# Altium schematic symbol library IR LED TSOP.Schlib: 1 symbol
Pins are listed as number, name and electrical type; pins without a type are passive.

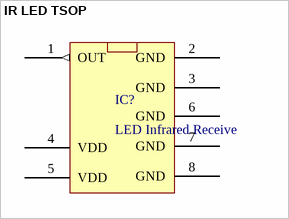
[diagram p0: symbol IR LED TSOP]

## IR LED TSOP
designator IC?, comment LED Infrared Receive
LED Infrared Receive 38 KHz
pins: 1 OUT (out), 2 GND (power), 3 GND (power), 4 VDD (power), 5 VDD (power), 6 GND (power), 7 GND (power), 8 GND (power)